# Altium schematic symbol library Componentes_base.SchLib: 431 symbols (part 11 of 12)
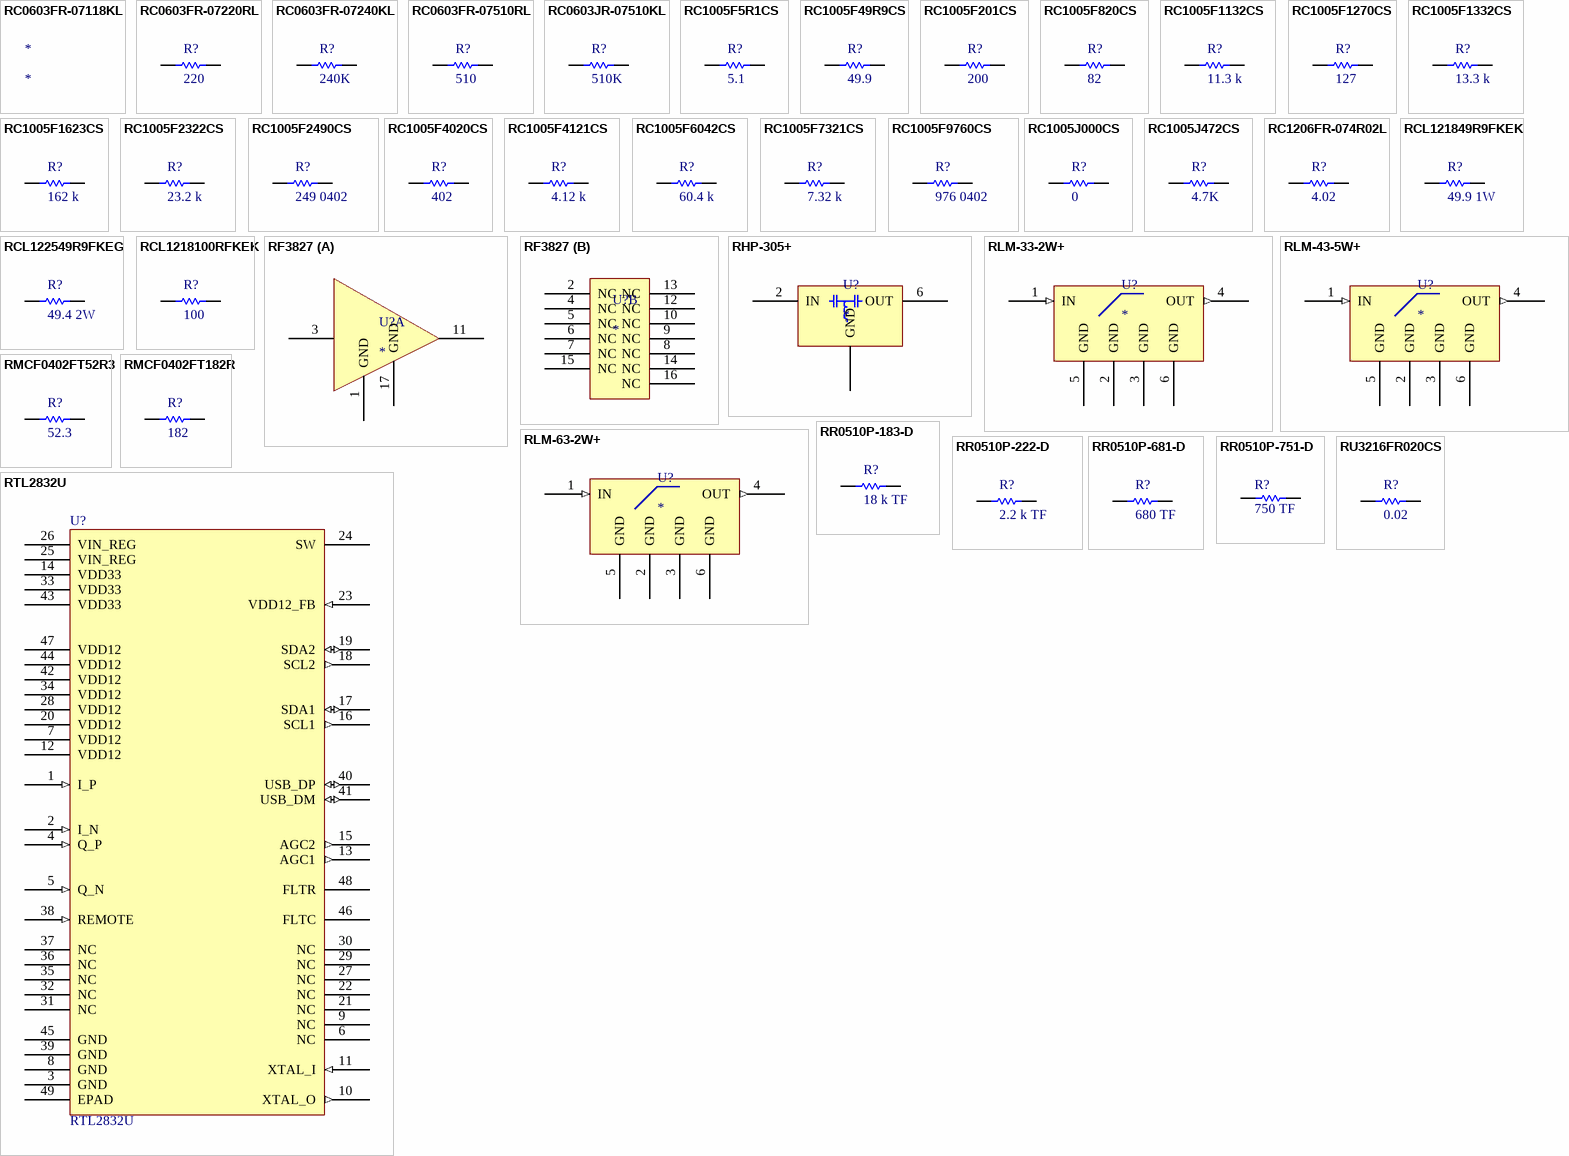
[diagram p24: symbols RC0603FR-07118KL to RU3216FR020CS]

## RC1005F49R9CS
designator R?, comment 49.9
RES SMD 49.9 OHM 1% 1/16W 0402; Manufacturer: Samsung Electro-Mechanics America, Inc.; Manufacturer Part Number: RC1005F49R9CS; Power (Watts): 0.063W, 1/16W; Temperature Coefficient: ±100ppm/°C; Supplier 1: Digi-Key; RoHS: RoHS Compliant; Category: Resistors; Stock 1: 1721748; Pricing 1: 1=0.09, 10=0.012, 100=0.0051, 1000=0.0023, 2500=0.002, 5000=0.00165 (EUR); Packaging: Cut Tape (CT); Part Status: Active; Resistance (Ohms): 49.9; Tolerance: ±1%; Composition: Thick Film; Features: Moisture Resistant; Operating Temperature: -55°C ~ 155°C; Package / Case: 0402 (1005 Metric); Supplier Device Package: 0402; Size / Dimension: 0.039" L x 0.020" W (1.00mm x 0.50mm); Height - Seated (Max): 0.016" (0.40mm); Failure Rate: -; ComponentLink1URL: http://www.samsungsem.com/kr/support/library/product-catalog/__icsFiles/afieldfile/2015/09/22/CHIP_RESISTOR_2015.pdf; ComponentLink1Description: http://www.samsungsem.com/kr/support/library/product-catalog/__icsFiles/afieldfile/2015/09/22/CHIP_RESISTOR_2015.pdf; Supplier Part Number 1: 1276-3469-1-ND
footprint RESC1005X04L (Chip Resistor, 2-Leads, Body 1,00x0,50mm, IPC High Density)
pins: 1, 2

## RC1005F201CS
designator R?, comment 200
RES 200 OHM 1/16W 1% 0402; Manufacturer: Samsung Electro-Mechanics America, Inc; Manufacturer Part Number: RC1005F201CS; Power (Watts): 0.063W, 1/16W; Temperature Coefficient: ±100ppm/°C; Supplier 1: Digi-Key; Supplier Part Number 1: 1276-3959-1-ND; RoHS: RoHS Compliant; Category: Resistors; Stock 1: 127532; Pricing 1: 1=0.09, 10=0.024, 25=0.0172, 100=0.0097, 500=0.00594, 1000=0.00436, 2500=0.00378, 5000=0.00313 (EUR); Packaging: Cut Tape (CT); Resistance (Ohms): 200; Tolerance: ±1%; Composition: Thick Film; Features: -; Operating Temperature: -55°C ~ 155°C; Package / Case: 0402 (1005 Metric); Supplier Device Package: 0402 (1005 Metric); Size / Dimension: 0.039" L x 0.020" W (1.00mm x 0.50mm); Height: 0.016" (0.40mm); Number of Terminations: 2; ComponentLink1URL: http://www.samsungsem.com/servlet/FileDownload?filename=productcatalog/pdf/Chip_Resistor.pdf; ComponentLink1Description: http://www.samsungsem.com/servlet/FileDownload?filename=productcatalog/pdf/Chip_Resistor.pdf
footprint RESC1005X04L (Chip Resistor, 2-Leads, Body 1,00x0,50mm, IPC High Density)
pins: 1, 2

## RC1005F820CS
designator R?, comment 82
RES 82 OHM 1/16W 1% 0402; Manufacturer: Samsung Electro-Mechanics America, Inc; Manufacturer Part Number: RC1005F820CS; Power (Watts): 0.063W, 1/16W; Temperature Coefficient: ±100ppm/°C; Supplier 1: Digi-Key; Supplier Part Number 1: 1276-3936-1-ND; RoHS: RoHS Compliant; Category: Resistors; Stock 1: 36135; Pricing 1: 1=0.09, 10=0.024, 25=0.0172, 100=0.0097, 500=0.00594, 1000=0.00436, 2500=0.00378, 5000=0.00313 (EUR); Packaging: Cut Tape (CT); Resistance (Ohms): 82; Tolerance: ±1%; Composition: Thick Film; Features: -; Operating Temperature: -55°C ~ 155°C; Package / Case: 0402 (1005 Metric); Supplier Device Package: 0402 (1005 Metric); Size / Dimension: 0.039" L x 0.020" W (1.00mm x 0.50mm); Height: 0.016" (0.40mm); Number of Terminations: 2; ComponentLink1URL: http://www.samsungsem.com/servlet/FileDownload?filename=productcatalog/pdf/Chip_Resistor.pdf; ComponentLink1Description: http://www.samsungsem.com/servlet/FileDownload?filename=productcatalog/pdf/Chip_Resistor.pdf
footprint RESC1005X04L (Chip Resistor, 2-Leads, Body 1,00x0,50mm, IPC High Density)
pins: 1, 2

## RC1005F1132CS
designator R?, comment 11.3 k
RES 11.3K OHM 1/16W 1% 0402; Manufacturer: Samsung Electro-Mechanics America, Inc; Manufacturer Part Number: RC1005F1132CS; Power (Watts): 0.063W, 1/16W; Temperature Coefficient: ±100ppm/°C; Supplier 1: Digi-Key; Supplier Part Number 1: 1276-4119-1-ND; RoHS: RoHS Compliant; Category: Resistors; Stock 1: 19190; Pricing 1: 1=0.09, 10=0.024, 25=0.0172, 100=0.0097, 500=0.00594, 1000=0.00436, 2500=0.00378, 5000=0.00313 (EUR); Packaging: Cut Tape (CT); Resistance (Ohms): 11.3k; Tolerance: ±1%; Composition: Thick Film; Features: -; Operating Temperature: -55°C ~ 155°C; Package / Case: 0402 (1005 Metric); Supplier Device Package: 0402 (1005 Metric); Size / Dimension: 0.039" L x 0.020" W (1.00mm x 0.50mm); Height: 0.016" (0.40mm); Number of Terminations: 2; ComponentLink1URL: http://www.samsungsem.com/servlet/FileDownload?filename=productcatalog/pdf/Chip_Resistor.pdf; ComponentLink1Description: http://www.samsungsem.com/servlet/FileDownload?filename=productcatalog/pdf/Chip_Resistor.pdf
footprint RESC1005X04L (Chip Resistor, 2-Leads, Body 1,00x0,50mm, IPC High Density)
pins: 1, 2

## RC1005F1270CS
designator R?, comment 127
RES 127 OHM 1/16W 1% 0402; Manufacturer: Samsung Electro-Mechanics America, Inc; Manufacturer Part Number: RC1005F1270CS; Power (Watts): 0.063W, 1/16W; Temperature Coefficient: ±100ppm/°C; Supplier 1: Digi-Key; Supplier Part Number 1: 1276-3950-1-ND; RoHS: RoHS Compliant; Category: Resistors; Stock 1: 12395; Pricing 1: 1=0.09, 10=0.024, 25=0.0172, 100=0.0097, 500=0.00594, 1000=0.00436, 2500=0.00378, 5000=0.00313 (EUR); Packaging: Cut Tape (CT); Resistance (Ohms): 127; Tolerance: ±1%; Composition: Thick Film; Features: -; Operating Temperature: -55°C ~ 155°C; Package / Case: 0402 (1005 Metric); Supplier Device Package: 0402 (1005 Metric); Size / Dimension: 0.039" L x 0.020" W (1.00mm x 0.50mm); Height: 0.016" (0.40mm); Number of Terminations: 2; ComponentLink1URL: http://www.samsungsem.com/servlet/FileDownload?filename=productcatalog/pdf/Chip_Resistor.pdf; ComponentLink1Description: http://www.samsungsem.com/servlet/FileDownload?filename=productcatalog/pdf/Chip_Resistor.pdf
footprint RESC1005X04L (Chip Resistor, 2-Leads, Body 1,00x0,50mm, IPC High Density)
pins: 1, 2

## RC1005F1332CS
designator R?, comment 13.3 k
RES 13.3K OHM 1/16W 1% 0402; Manufacturer: Samsung Electro-Mechanics America, Inc; Manufacturer Part Number: RC1005F1332CS; Power (Watts): 0.063W, 1/16W; Temperature Coefficient: ±100ppm/°C; Supplier 1: Digi-Key; Supplier Part Number 1: 1276-4126-1-ND; RoHS: RoHS Compliant; Category: Resistors; Stock 1: 2904; Pricing 1: 1=0.09, 25=0.0044, 100=0.0024, 500=0.00142, 1000=0.00106, 2500=0.00091, 5000=0.00075 (EUR); Packaging: Cut Tape (CT); Resistance (Ohms): 13.3k; Tolerance: ±1%; Composition: Thick Film; Features: -; Operating Temperature: -55°C ~ 155°C; Package / Case: 0402 (1005 Metric); Supplier Device Package: 0402 (1005 Metric); Size / Dimension: 0.039" L x 0.020" W (1.00mm x 0.50mm); Height: 0.016" (0.40mm); Number of Terminations: 2; ComponentLink1URL: http://www.samsungsem.com/servlet/FileDownload?filename=productcatalog/pdf/Chip_Resistor.pdf; ComponentLink1Description: http://www.samsungsem.com/servlet/FileDownload?filename=productcatalog/pdf/Chip_Resistor.pdf
footprint RESC1005X04L (Chip Resistor, 2-Leads, Body 1,00x0,50mm, IPC High Density)
pins: 1, 2

## RC1005F1623CS
designator R?, comment 162 k
RES 162K OHM 1/16W 1% 0402; Manufacturer: Samsung Electro-Mechanics America, Inc; Manufacturer Part Number: RC1005F1623CS; Power (Watts): 0.063W, 1/16W; Temperature Coefficient: ±100ppm/°C; Supplier 1: Digi-Key; Supplier Part Number 1: 1276-3444-1-ND; RoHS: RoHS Compliant; Category: Resistors; Stock 1: 34918; Pricing 1: 1=0.09, 10=0.017, 25=0.0124, 100=0.0069, 500=0.00418, 1000=0.00308, 2500=0.00267, 5000=0.00221 (EUR); Packaging: Cut Tape (CT); Resistance (Ohms): 162k; Tolerance: ±1%; Composition: Thick Film; Features: -; Operating Temperature: -55°C ~ 155°C; Package / Case: 0402 (1005 Metric); Supplier Device Package: 0402 (1005 Metric); Size / Dimension: 0.039" L x 0.020" W (1.00mm x 0.50mm); Height: 0.016" (0.40mm); Number of Terminations: 2; ComponentLink1URL: http://www.samsungsem.com/servlet/FileDownload?filename=productcatalog/pdf/Chip_Resistor.pdf; ComponentLink1Description: http://www.samsungsem.com/servlet/FileDownload?filename=productcatalog/pdf/Chip_Resistor.pdf
footprint RESC1005X04L (Chip Resistor, 2-Leads, Body 1,00x0,50mm, IPC High Density)
pins: 1, 2

## RC1005F2322CS
designator R?, comment 23.2 k
RES 23.2K OHM 1/16W 1% 0402; Manufacturer: Samsung Electro-Mechanics America, Inc; Manufacturer Part Number: RC1005F2322CS; Power (Watts): 0.063W, 1/16W; Temperature Coefficient: ±100ppm/°C; Supplier 1: Digi-Key; Supplier Part Number 1: 1276-4146-1-ND; RoHS: RoHS Compliant; Category: Resistors; Stock 1: 42307; Pricing 1: 1=0.09, 10=0.024, 25=0.0172, 100=0.0097, 500=0.00594, 1000=0.00436, 2500=0.00378, 5000=0.00313 (EUR); Packaging: Cut Tape (CT); Resistance (Ohms): 23.2k; Tolerance: ±1%; Composition: Thick Film; Features: -; Operating Temperature: -55°C ~ 155°C; Package / Case: 0402 (1005 Metric); Supplier Device Package: 0402 (1005 Metric); Size / Dimension: 0.039" L x 0.020" W (1.00mm x 0.50mm); Height: 0.016" (0.40mm); Number of Terminations: 2; ComponentLink1URL: http://www.samsungsem.com/servlet/FileDownload?filename=productcatalog/pdf/Chip_Resistor.pdf; ComponentLink1Description: http://www.samsungsem.com/servlet/FileDownload?filename=productcatalog/pdf/Chip_Resistor.pdf
footprint RESC1005X04L (Chip Resistor, 2-Leads, Body 1,00x0,50mm, IPC High Density)
pins: 1, 2

## RC1005F2490CS
designator R?, comment 249 0402
RES 249 OHM 1/16W 1% 0402; Manufacturer: Samsung Electro-Mechanics America, Inc; Manufacturer Part Number: RC1005F2490CS; Resistance (Ohms): 249; Power (Watts): 0.063W, 1/16W; Temperature Coefficient: ±100ppm/°C; Supplier 1: Digi-Key; Supplier Part Number 1: 1276-3967-1-ND; RoHS: RoHS Compliant; Category: Resistors; Stock 1: 24056; Pricing 1: 1=0.09, 10=0.024, 25=0.0172, 100=0.0097, 500=0.00594, 1000=0.00436, 2500=0.00378, 5000=0.00313 (EUR); Packaging: Cut Tape (CT); Tolerance: ±1%; Composition: Thick Film; Features: -; Operating Temperature: -55°C ~ 155°C; Package / Case: 0402 (1005 Metric); Supplier Device Package: 0402 (1005 Metric); Size / Dimension: 0.039" L x 0.020" W (1.00mm x 0.50mm); Height: 0.016" (0.40mm); Number of Terminations: 2; ComponentLink1URL: http://www.samsungsem.com/servlet/FileDownload?filename=productcatalog/pdf/Chip_Resistor.pdf; ComponentLink1Description: http://www.samsungsem.com/servlet/FileDownload?filename=productcatalog/pdf/Chip_Resistor.pdf
footprint RESC1005X04L (Chip Resistor, 2-Leads, Body 1,00x0,50mm, IPC High Density)
pins: 1, 2

## RC1005F4020CS
designator R?, comment 402
RES 402 OHM 1/16W 1% 0402; Manufacturer: Samsung Electro-Mechanics America, Inc; Manufacturer Part Number: RC1005F4020CS; Power (Watts): 0.063W, 1/16W; Temperature Coefficient: ±100ppm/°C; Supplier 1: Digi-Key; Supplier Part Number 1: 1276-3983-1-ND; RoHS: RoHS Compliant; Category: Resistors; Stock 1: 31102; Pricing 1: 1=0.09, 10=0.024, 25=0.0172, 100=0.0097, 500=0.00594, 1000=0.00436, 2500=0.00378, 5000=0.00313 (EUR); Packaging: Cut Tape (CT); Resistance (Ohms): 402; Tolerance: ±1%; Composition: Thick Film; Features: -; Operating Temperature: -55°C ~ 155°C; Package / Case: 0402 (1005 Metric); Supplier Device Package: 0402 (1005 Metric); Size / Dimension: 0.039" L x 0.020" W (1.00mm x 0.50mm); Height: 0.016" (0.40mm); Number of Terminations: 2; ComponentLink1URL: http://www.samsungsem.com/servlet/FileDownload?filename=productcatalog/pdf/Chip_Resistor.pdf; ComponentLink1Description: http://www.samsungsem.com/servlet/FileDownload?filename=productcatalog/pdf/Chip_Resistor.pdf
footprint RESC1005X04L (Chip Resistor, 2-Leads, Body 1,00x0,50mm, IPC High Density)
pins: 1, 2

## RC1005F4121CS
designator R?, comment 4.12 k
RES 4.12K OHM 1/16W 1% 0402; Manufacturer: Samsung Electro-Mechanics America, Inc; Manufacturer Part Number: RC1005F4121CS; Power (Watts): 0.063W, 1/16W; Temperature Coefficient: ±100ppm/°C; Supplier 1: Digi-Key; Supplier Part Number 1: 1276-4076-1-ND; RoHS: RoHS Compliant; Category: Resistors; Stock 1: 47557; Pricing 1: 1=0.09, 10=0.024, 25=0.0172, 100=0.0097, 500=0.00594, 1000=0.00436, 2500=0.00378, 5000=0.00313 (EUR); Packaging: Cut Tape (CT); Resistance (Ohms): 4.12k; Tolerance: ±1%; Composition: Thick Film; Features: -; Operating Temperature: -55°C ~ 155°C; Package / Case: 0402 (1005 Metric); Supplier Device Package: 0402 (1005 Metric); Size / Dimension: 0.039" L x 0.020" W (1.00mm x 0.50mm); Height: 0.016" (0.40mm); Number of Terminations: 2; ComponentLink1URL: http://www.samsungsem.com/servlet/FileDownload?filename=productcatalog/pdf/Chip_Resistor.pdf; ComponentLink1Description: http://www.samsungsem.com/servlet/FileDownload?filename=productcatalog/pdf/Chip_Resistor.pdf
footprint RESC1005X04L (Chip Resistor, 2-Leads, Body 1,00x0,50mm, IPC High Density)
pins: 1, 2

## RC1005F6042CS
designator R?, comment 60.4 k
RES 60.4K OHM 1/16W 1% 0402; Manufacturer: Samsung Electro-Mechanics America, Inc; Manufacturer Part Number: RC1005F6042CS; Power (Watts): 0.063W, 1/16W; Temperature Coefficient: ±100ppm/°C; Supplier 1: Digi-Key; Supplier Part Number 1: 1276-4185-1-ND; RoHS: RoHS Compliant; Category: Resistors; Stock 1: 37971; Pricing 1: 1=0.09, 10=0.024, 25=0.0172, 100=0.0097, 500=0.00594, 1000=0.00436, 2500=0.00378, 5000=0.00313 (EUR); Packaging: Cut Tape (CT); Resistance (Ohms): 60.4k; Tolerance: ±1%; Composition: Thick Film; Features: -; Operating Temperature: -55°C ~ 155°C; Package / Case: 0402 (1005 Metric); Supplier Device Package: 0402 (1005 Metric); Size / Dimension: 0.039" L x 0.020" W (1.00mm x 0.50mm); Height: 0.016" (0.40mm); Number of Terminations: 2; ComponentLink1URL: http://www.samsungsem.com/servlet/FileDownload?filename=productcatalog/pdf/Chip_Resistor.pdf; ComponentLink1Description: http://www.samsungsem.com/servlet/FileDownload?filename=productcatalog/pdf/Chip_Resistor.pdf
footprint RESC1005X04L (Chip Resistor, 2-Leads, Body 1,00x0,50mm, IPC High Density)
pins: 1, 2

## RC1005F7321CS
designator R?, comment 7.32 k
RES 7.32K OHM 1/16W 1% 0402; Manufacturer: Samsung Electro-Mechanics America, Inc; Manufacturer Part Number: RC1005F7321CS; Power (Watts): 0.063W, 1/16W; Temperature Coefficient: ±100ppm/°C; Supplier 1: Digi-Key; Supplier Part Number 1: 1276-4101-1-ND; RoHS: RoHS Compliant; Category: Resistors; Stock 1: 17403; Pricing 1: 1=0.09, 10=0.024, 25=0.0172, 100=0.0097, 500=0.00594, 1000=0.00436, 2500=0.00378, 5000=0.00313 (EUR); Packaging: Cut Tape (CT); Resistance (Ohms): 7.32k; Tolerance: ±1%; Composition: Thick Film; Features: -; Operating Temperature: -55°C ~ 155°C; Package / Case: 0402 (1005 Metric); Supplier Device Package: 0402 (1005 Metric); Size / Dimension: 0.039" L x 0.020" W (1.00mm x 0.50mm); Height: 0.016" (0.40mm); Number of Terminations: 2; ComponentLink1URL: http://www.samsungsem.com/servlet/FileDownload?filename=productcatalog/pdf/Chip_Resistor.pdf; ComponentLink1Description: http://www.samsungsem.com/servlet/FileDownload?filename=productcatalog/pdf/Chip_Resistor.pdf
footprint RESC1005X04L (Chip Resistor, 2-Leads, Body 1,00x0,50mm, IPC High Density)
pins: 1, 2

## RC1005F9760CS
designator R?, comment 976 0402
RES 976 OHM 1/16W 1% 0402; Manufacturer: Samsung Electro-Mechanics America, Inc; Manufacturer Part Number: RC1005F9760CS; Resistance (Ohms): 976; Power (Watts): 0.063W, 1/16W; Temperature Coefficient: ±100ppm/°C; Supplier 1: Digi-Key; Supplier Part Number 1: 1276-4019-1-ND; RoHS: RoHS Compliant; Category: Resistors; Stock 1: 18970; Pricing 1: 1=0.09, 10=0.024, 25=0.0172, 100=0.0097, 500=0.00594, 1000=0.00436, 2500=0.00378, 5000=0.00313 (EUR); Packaging: Cut Tape (CT); Tolerance: ±1%; Composition: Thick Film; Features: -; Operating Temperature: -55°C ~ 155°C; Package / Case: 0402 (1005 Metric); Supplier Device Package: 0402 (1005 Metric); Size / Dimension: 0.039" L x 0.020" W (1.00mm x 0.50mm); Height: 0.016" (0.40mm); Number of Terminations: 2; ComponentLink1URL: http://www.samsungsem.com/servlet/FileDownload?filename=productcatalog/pdf/Chip_Resistor.pdf; ComponentLink1Description: http://www.samsungsem.com/servlet/FileDownload?filename=productcatalog/pdf/Chip_Resistor.pdf
footprint RESC1005X04L (Chip Resistor, 2-Leads, Body 1,00x0,50mm, IPC High Density)
pins: 1, 2

## RC1005J000CS
designator R?, comment 0
RES 0.0 OHM 1/16W JUMP 0402; Manufacturer: Samsung Electro-Mechanics America, Inc; Manufacturer Part Number: RC1005J000CS; Resistance (Ohms): 0.0; Tolerance: Jumper; Power (Watts): 0.063W, 1/16W; Supplier 1: Digi-Key; Supplier Part Number 1: 1276-3480-1-ND; RoHS: RoHS Compliant; Category: Resistors; Stock 1: 2874816; Pricing 1: 1=0.09, 10=0.01, 25=0.0072, 100=0.0039, 500=0.00238, 1000=0.00174, 2500=0.00151, 5000=0.00125 (EUR); Packaging: Cut Tape (CT); Composition: Thick Film; Features: -; Temperature Coefficient: -; Operating Temperature: -55°C ~ 155°C; Package / Case: 0402 (1005 Metric); Supplier Device Package: 0402 (1005 Metric); Size / Dimension: 0.039" L x 0.020" W (1.00mm x 0.50mm); Height: 0.016" (0.40mm); Number of Terminations: 2; ComponentLink1URL: http://www.samsungsem.com/servlet/FileDownload?filename=productcatalog/pdf/Chip_Resistor.pdf; ComponentLink1Description: http://www.samsungsem.com/servlet/FileDownload?filename=productcatalog/pdf/Chip_Resistor.pdf
footprint RESC1005X04L (Chip Resistor, 2-Leads, Body 1,00x0,50mm, IPC High Density)
pins: 1, 2

## RC1005J472CS
designator R?, comment 4.7K
RES SMD 4.7K OHM 5% 1/16W 0402; Manufacturer: Samsung Electro-Mechanics America, Inc.; Manufacturer Part Number: RC1005J472CS; Power (Watts): 0.063W, 1/16W; Temperature Coefficient: ±100ppm/°C; Supplier 1: Digi-Key; RoHS: RoHS Compliant; Category: Resistors; Stock 1: 343796; Pricing 1: 1=0.09, 10=0.01, 100=0.004, 1000=0.00182, 2500=0.00158, 5000=0.0013 (EUR); Packaging: Cut Tape (CT); Part Status: Active; Resistance (Ohms): 4.7k; Tolerance: ±5%; Composition: Thick Film; Features: Moisture Resistant; Operating Temperature: -55°C ~ 155°C; Package / Case: 0402 (1005 Metric); Supplier Device Package: 0402; Size / Dimension: 0.039" L x 0.020" W (1.00mm x 0.50mm); Height - Seated (Max): 0.016" (0.40mm); Failure Rate: -; ComponentLink1URL: http://www.samsungsem.com/kr/support/library/product-catalog/__icsFiles/afieldfile/2015/09/22/CHIP_RESISTOR_2015.pdf; ComponentLink1Description: http://www.samsungsem.com/kr/support/library/product-catalog/__icsFiles/afieldfile/2015/09/22/CHIP_RESISTOR_2015.pdf; Supplier Part Number 1: 1276-4392-1-ND
footprint RESC1005X04L (Chip Resistor, 2-Leads, Body 1,00x0,50mm, IPC High Density)
pins: 1, 2

## RC1206FR-074R02L
designator R?, comment 4.02
RES 4.02 OHM 1/4W 1% 1206 SMD; Manufacturer: Yageo; Manufacturer Part Number: RC1206FR-074R02L; Power (Watts): 0.25W, 1/4W; Temperature Coefficient: ±200ppm/°C; Supplier 1: Digi-Key; Supplier Part Number 1: 311-4.02FRCT-ND; RoHS: RoHS Compliant; Category: Resistors; Stock 1: 134038; Pricing 1: 1=0.09, 10=0.028, 25=0.0208, 100=0.0116, 250=0.00884, 500=0.00708, 1000=0.00521, 2500=0.00452 (EUR); Packaging: Cut Tape (CT); Resistance (Ohms): 4.02; Tolerance: ±1%; Composition: Thick Film; Features: Moisture Resistant; Operating Temperature: -55°C ~ 155°C; Package / Case: 1206 (3216 Metric); Supplier Device Package: 1206; Size / Dimension: 0.122" L x 0.063" W (3.10mm x 1.60mm); Height: 0.026" (0.65mm); Number of Terminations: 2; ComponentLink1URL: http://www.yageo.com/documents/recent/PYu-RC1206_51_RoHS_L-4.pdf; ComponentLink1Description: http://www.yageo.com/documents/recent/PYu-RC1206_51_RoHS_L-4.pdf
footprint RESC3116X07L (Chip Resistor, 2-Leads, Body 3,10x1,55mm, IPC High Density)
pins: 1, 2

## RCL121849R9FKEK
designator R?, comment 49.9 1W
RES SMD 49.9 OHM 1% 1W 1218; Manufacturer: Vishay Dale; Manufacturer Part Number: RCL121849R9FKEK; Resistance (Ohms): 49.9; Temperature Coefficient: ±100ppm/°C; Resistance: 49.9 Ohms; Voltage Rating: 200 V; Brand: Vishay / Draloric; Supplier 1: Digi-Key; RoHS: RoHS Compliant; Category: Resistors; Stock 1: 11875; Pricing 1: 1=0.48, 10=0.343, 25=0.268, 50=0.2268, 100=0.1786, 250=0.15112, 500=0.12364, 1000=0.09616 (EUR); Packaging: Cut Tape (CT); Tolerance: ±1%; Power (Watts): 1W; Composition: Thick Film; Features: Automotive AEC-Q200; Operating Temperature: -55°C ~ 155°C; Package / Case: Wide 1812 (4532 Metric), 1218; Supplier Device Package: 1218 (3246 Metric); Size / Dimension: 0.126" L x 0.181" W (3.20mm x 4.60mm); Height: 0.024" (0.60mm); Number of Terminations: 2; ComponentLink1URL: http://www.vishay.com/docs/20046/rcle3.pdf; ComponentLink1Description: http://www.vishay.com/docs/20046/rcle3.pdf; Supplier Part Number 1: RCL49.9ACT-ND; Supplier 2: Mouser; Stock 2: 2103; Pricing 2: 1=0.815, 50=0.469, 100=0.376, 1000=0.171, 4000=0.148, 8000=0.127, 16000=0.110, 24000=0.102 (EUR); Length: 3.2 mm; Operating Temperature Range: - 55 C to + 155 C; Package/Case: 1218 (3246 metric) Reversed; Power Rating: 1 W; Product: Thick Film Resistors SMD; Series: RCL; Termination Style: SMD/SMT; Type: Long Side Termination Thick Film Chip Resistors; Width: 4.6 mm; Case Code - in: 1218 (Reversed); Case Code - mm: 3246 (Reversed); RoHS - Mouser: E; Minimum Order Quantity: 1; Reeling: True; ComponentLink2URL: http://www.mouser.com/ds/2/427/rcle3-247384.pdf; ComponentLink2Description: http://www.mouser.com/ds/2/427/rcle3-247384.pdf; Supplier Part Number 2: 71-RCL121849R9FKEK
footprint RESC3146X06L (Chip Resistor, 2-Leads, Body 3,15x4,60mm, IPC High Density)
pins: 1, 2

## RCL122549R9FKEG
designator R?, comment 49.4 2W
Thick Film Resistors - SMD 2watt 49.9ohm 1% 100ppm 1225; Manufacturer: Vishay / Draloric; Manufacturer Part Number: RCL122549R9FKEG; Resistance: 49.9 Ohms; Temperature Coefficient: 100 PPM / K; Voltage Rating: 200 V; Supplier 1: Mouser; RoHS: RoHS Compliant By Exemption; Category: Thick Film Resistors - SMD; Stock 1: 2270; Pricing 1: 1=0.462, 25=0.397, 50=0.357, 100=0.279, 500=0.225, 1000=0.183, 2000=0.160, 4000=0.157, 8000=0.153 (EUR); Height: 0.75 mm; Length: 3.2 mm; Operating Temperature Range: - 55 C to + 155 C; Package/Case: 1225 (3263 metric) Reversed; Packaging: Reel; Power Rating: 2 W; Product: Thick Film Resistors SMD; Series: RCL; Termination Style: SMD/SMT; Tolerance: 1 %; Type: Long Side Termination Thick Film Chip Resistors; Width: 6.3 mm; Brand: Vishay / Draloric; Case Code - in: 1225 (Reversed); Case Code - mm: 3263 (Reversed); RoHS - Mouser: E; Minimum Order Quantity: 1; Reeling: True; ComponentLink1URL: http://www.mouser.com/ds/2/427/rcle3-247384.pdf; ComponentLink1Description: http://www.mouser.com/ds/2/427/rcle3-247384.pdf; Supplier Part Number 1: 71-RCL122549R9FKEG
footprint RESC3263X08L (Chip Resistor, 2-Leads, Body 3,20x6,30mm, IPC High Density)
pins: 1, 2

## RCL1218100RFKEK
designator R?, comment 100
Thick Film Resistors - SMD 1watt 100ohms 1% 1218 100ppm; Manufacturer: Vishay / Draloric; Manufacturer Part Number: RCL1218100RFKEK; Power Rating: 1 W; Temperature Coefficient: 100 PPM / K; Voltage Rating: 200 V; Supplier 1: Mouser; RoHS: RoHS Compliant By Exemption; Category: Thick Film Resistors - SMD; Stock 1: 5370; Pricing 1: 1=0.272, 50=0.231, 100=0.126, 1000=0.098, 4000=0.086, 8000=0.085, 24000=0.081 (EUR); Height: 0.55 mm; Length: 3.2 mm; Operating Temperature Range: - 55 C to + 155 C; Package/Case: 1218 (3246 metric) Reversed; Packaging: Reel; Product: Thick Film Resistors SMD; Resistance: 100 Ohms; Series: RCL; Termination Style: SMD/SMT; Tolerance: 1 %; Type: Long Side Termination Thick Film Chip Resistors; Width: 4.6 mm; Brand: Vishay / Draloric; Case Code - in: 1218 (Reversed); Case Code - mm: 3246 (Reversed); RoHS - Mouser: E; Minimum Order Quantity: 1; Reeling: True; ComponentLink1URL: http://www.mouser.com/ds/2/427/rcle3-247384.pdf; ComponentLink1Description: http://www.mouser.com/ds/2/427/rcle3-247384.pdf; Supplier Part Number 1: 71-RCL1218100RFKEK
footprint RESC3146X06L (Chip Resistor, 2-Leads, Body 3,15x4,60mm, IPC High Density)
pins: 1, 2

## RF3827
designator U?
LINEAR GENERAL PURPOSE AMPLIFIER
footprint QFN50P300X300X62_HS-17L (QFN, 16-Leads, Body 3,00x3,00mm, Pitch 0,50mm, Thermal Pad 1,70x1,70mm, IPC High Density)
part A pins: 1 GND (power), 3 RF IN, 11 RF OUT, 17 GND (power)
part B pins: 2 NC, 4 NC, 5 NC, 6 NC, 7 NC, 8 NC, 9 NC, 10 NC, 12 NC, 13 NC, 14 NC, 15 NC, 16 NC

## RHP-305+
designator U?
High Pass Filter 50ohm 420 to 3200 MHz; Manufacturer: Minicircuits; Manufacturer Part Number: RHP-305+; Pricing 1: 10=12.7 (USD); Supplier 1: Minicircuits; Supplier Part Number 1: RHP-305+
footprint MINICIRCUITS TT1124 (6-Leads, Body 7,87x6,35mm, Pitch 2,54mm)
footprint GP731 MINICIRCUITS (LCC, 8-Pins, Body 8,89x8,99mmx2,54mm, Pitch 1,93mm, IPC High Density)
pins: 1 GND (power), 2 IN, 3 GND (power), 4 GND (power), 5 GND (power), 6 OUT, 7 GND (power), 8 GND (power)

## RLM-33-2W+
designator U?
Limiter 50ohm 0.2 MHz to 3000 MHz; Manufacturer: Minicircuits; Manufacturer Part Number: RLM-33-2W+; Pricing 1: 1=27.47, 10=22.73 (EUR); Supplier 1: Minicircuits; Supplier Part Number 1: RLM-33-2W+
footprint MINICIRCUITS TT1124 (6-Leads, Body 7,87x6,35mm, Pitch 2,54mm)
pins: 1 IN (in), 2 GND (power), 3 GND (power), 4 OUT (out), 5 GND (power), 6 GND (power)

## RLM-43-5W+
designator U?
Limiter 50ohm 20 MHz to 4000 MHz; Manufacturer: Minicircuits; Manufacturer Part Number: RLM-43-5W+; Pricing 1: 1=27.47, 10=22.73 (EUR); Supplier 1: Minicircuits; Supplier Part Number 1: RLM-43-5W+
footprint MINICIRCUITS TT1124 (6-Leads, Body 7,87x6,35mm, Pitch 2,54mm)
pins: 1 IN (in), 2 GND (power), 3 GND (power), 4 OUT (out), 5 GND (power), 6 GND (power)

## RLM-63-2W+
designator U?
Limiter 50ohm 30 MHz to 6000 MHz; Manufacturer: Minicircuits; Manufacturer Part Number: RLM-63-2W+; Pricing 1: 1=27.47, 10=22.73 (EUR); Supplier 1: Minicircuits; Supplier Part Number 1: RLM-63-2W+
footprint MINICIRCUITS TT1124 (6-Leads, Body 7,87x6,35mm, Pitch 2,54mm)
pins: 1 IN (in), 2 GND (power), 3 GND (power), 4 OUT (out), 5 GND (power), 6 GND (power)

## RMCF0402FT52R3
designator R?, comment 52.3
RES 52.3 OHM 1/16W 1% 0402; Manufacturer: Stackpole Electronics Inc; Manufacturer Part Number: RMCF0402FT52R3; Power (Watts): 0.063W, 1/16W; Temperature Coefficient: ±100ppm/°C; Supplier 1: Digi-Key; Supplier Part Number 1: RMCF0402FT52R3CT-ND; RoHS: RoHS Compliant; Category: Resistors; Stock 1: 20589; Pricing 1: 1=0.09, 10=0.022, 50=0.0122, 100=0.0092, 250=0.00688, 500=0.00506, 1000=0.00338, 2500=0.00285, 5000=0.00238 (EUR); Packaging: Cut Tape (CT); Resistance (Ohms): 52.3; Tolerance: ±1%; Composition: Thick Film; Features: -; Operating Temperature: -55°C ~ 155°C; Package / Case: 0402 (1005 Metric); Supplier Device Package: 0402; Size / Dimension: 0.039" L x 0.020" W (1.00mm x 0.50mm); Height: 0.016" (0.40mm); Number of Terminations: 2; ComponentLink1URL: http://www.seielect.com/Catalog/SEI-RMCF_RMCP.pdf; ComponentLink1Description: http://www.seielect.com/Catalog/SEI-RMCF_RMCP.pdf
footprint RESC1005X04L (Chip Resistor, 2-Leads, Body 1,00x0,50mm, IPC High Density)
pins: 1, 2

## RMCF0402FT182R
designator R?, comment 182
RES SMD 182 OHM 1% 1/16W 0402; Manufacturer: Stackpole Electronics Inc; Manufacturer Part Number: RMCF0402FT182R; Power (Watts): 0.063W, 1/16W; Temperature Coefficient: ±100ppm/°C; Supplier 1: Digi-Key; Supplier Part Number 1: RMCF0402FT182RCT-ND; RoHS: RoHS Compliant; Category: Resistors; Stock 1: 17462; Pricing 1: 1=0.09, 10=0.022, 50=0.0122, 100=0.0092, 250=0.00688, 500=0.00506, 1000=0.00338, 2500=0.00285, 5000=0.00238 (EUR); Packaging: Cut Tape (CT); Resistance (Ohms): 182; Tolerance: ±1%; Composition: Thick Film; Features: -; Operating Temperature: -55°C ~ 155°C; Package / Case: 0402 (1005 Metric); Supplier Device Package: 0402; Size / Dimension: 0.039" L x 0.020" W (1.00mm x 0.50mm); Height: 0.016" (0.40mm); Number of Terminations: 2; ComponentLink1URL: http://www.seielect.com/Catalog/SEI-RMCF_RMCP.pdf; ComponentLink1Description: http://www.seielect.com/Catalog/SEI-RMCF_RMCP.pdf
footprint RESC1005X04L (Chip Resistor, 2-Leads, Body 1,00x0,50mm, IPC High Density)
pins: 1, 2

## RR0510P-183-D
designator R?, comment 18 k TF
Thin Film Resistors - SMD 1/16W 18Kohm 0.5% 25ppm; Manufacturer: Susumu; Manufacturer Part Number: RR0510P-183-D; Power Rating: 62.5 mW (1/16 W); Resistance: 18 kOhms; Temperature Coefficient: 25 PPM / C; Voltage Rating: 25 V; Resistance (Ohms): 18k; Power (Watts): 0.063W, 1/16W; Supplier 1: Mouser; RoHS: RoHS Compliant; Category: Thin Film Resistors - SMD; Stock 1: 12105; Pricing 1: 1=0.073, 10=0.040, 100=0.017, 1000=0.014, 2000=0.009, 10000=0.008, 20000=0.007 (EUR); Height: 0.35 mm; Length: 1 mm; Operating Temperature Range: - 55 C to + 125 C; Package/Case: 0402 (1005 metric); Packaging: Reel; Product: Thin Film Resistors SMD; Termination Style: SMD/SMT; Tolerance: 0.5 %; Width: 0.5 mm; Brand: Susumu; Case Code - in: 0402; Case Code - mm: 1005; Standard Pack Qty: 10000; RoHS - Mouser: Y; Minimum Order Quantity: 1; Reeling: True; ComponentLink1URL: http://www.mouser.com/ds/2/392/susumu_RR_Data_Sheet-358748.pdf; ComponentLink1Description: http://www.mouser.com/ds/2/392/susumu_RR_Data_Sheet-358748.pdf; Supplier 2: Digi-Key; Stock 2: 65580; Pricing 2: 1=0.09, 10=0.075, 50=0.0412, 100=0.0304, 250=0.02324, 500=0.01856, 1000=0.01366, 2500=0.01185, 5000=0.00978 (EUR); Composition: Thin Film; Features: -; Operating Temperature: -55°C ~ 125°C; Package / Case: 0402 (1005 Metric); Supplier Device Package: 0402; Size / Dimension: 0.039" L x 0.020" W (1.00mm x 0.50mm); Number of Terminations: 2; ComponentLink2URL: http://www.susumu.co.jp/product_pdf/all-list/e_11.pdf; ComponentLink2Description: http://www.susumu.co.jp/product_pdf/all-list/e_11.pdf; Supplier Part Number 1: 754-RR0510P-183D; Supplier Part Number 2: RR05P18.0KDCT-ND
footprint RESC1005X04L (Chip Resistor, 2-Leads, Body 1,00x0,50mm, IPC High Density)
pins: 1, 2

## RR0510P-222-D
designator R?, comment 2.2 k TF
Thin Film Resistors - SMD 1/16W 2.2Kohm 0.5% 25ppm; Manufacturer: Susumu; Manufacturer Part Number: RR0510P-222-D; Power Rating: 62.5 mW (1/16 W); Resistance: 2.2 kOhms; Temperature Coefficient: 25 PPM / C; Voltage Rating: 25 V; Resistance (Ohms): 2.2k; Power (Watts): 0.063W, 1/16W; Supplier 1: Mouser; RoHS: RoHS Compliant; Category: Thin Film Resistors - SMD; Stock 1: 25560; Pricing 1: 1=0.064, 10=0.036, 100=0.016, 1000=0.012, 2000=0.008, 10000=0.007, 20000=0.006 (EUR); Height: 0.35 mm; Length: 1 mm; Operating Temperature Range: - 55 C to + 125 C; Package/Case: 0402 (1005 metric); Packaging: Reel; Product: Thin Film Resistors SMD; Termination Style: SMD/SMT; Tolerance: 0.5 %; Width: 0.5 mm; Brand: Susumu; Case Code - in: 0402; Case Code - mm: 1005; Standard Pack Qty: 10000; RoHS - Mouser: Y; Minimum Order Quantity: 1; Reeling: True; ComponentLink1URL: http://www.mouser.com/ds/2/392/susumu_RR_Data_Sheet-358748.pdf; ComponentLink1Description: http://www.mouser.com/ds/2/392/susumu_RR_Data_Sheet-358748.pdf; Supplier 2: Digi-Key; Stock 2: 33557; Pricing 2: 1=0.09, 10=0.075, 50=0.0412, 100=0.0304, 250=0.02324, 500=0.01856, 1000=0.01366, 2500=0.01185, 5000=0.00978 (EUR); Composition: Thin Film; Features: -; Operating Temperature: -55°C ~ 125°C; Package / Case: 0402 (1005 Metric); Supplier Device Package: 0402; Size / Dimension: 0.039" L x 0.020" W (1.00mm x 0.50mm); Number of Terminations: 2; ComponentLink2URL: http://www.susumu.co.jp/product_pdf/all-list/e_11.pdf; ComponentLink2Description: http://www.susumu.co.jp/product_pdf/all-list/e_11.pdf; Supplier Part Number 1: 754-RR0510P-222D; Supplier Part Number 2: RR05P2.2KDCT-ND
footprint RESC1005X04L (Chip Resistor, 2-Leads, Body 1,00x0,50mm, IPC High Density)
pins: 1, 2

## RR0510P-681-D
designator R?, comment 680 TF
Thin Film Resistors - SMD 1/16W 680ohm 0.5% 25ppm; Manufacturer: Susumu; Manufacturer Part Number: RR0510P-681-D; Power Rating: 62.5 mW (1/16 W); Resistance: 680 Ohms; Temperature Coefficient: 25 PPM / C; Voltage Rating: 25 V; Resistance (Ohms): 680; Power (Watts): 0.063W, 1/16W; Supplier 1: Mouser; RoHS: RoHS Compliant; Category: Thin Film Resistors - SMD; Stock 1: 3977; Pricing 1: 1=0.064, 10=0.036, 100=0.016, 1000=0.012, 2000=0.008, 10000=0.007, 20000=0.006 (EUR); Height: 0.35 mm; Length: 1 mm; Operating Temperature Range: - 55 C to + 125 C; Package/Case: 0402 (1005 metric); Packaging: Reel; Product: Thin Film Resistors SMD; Termination Style: SMD/SMT; Tolerance: 0.5 %; Width: 0.5 mm; Brand: Susumu; Case Code - in: 0402; Case Code - mm: 1005; Standard Pack Qty: 10000; RoHS - Mouser: Y; Minimum Order Quantity: 1; Reeling: True; ComponentLink1URL: http://www.mouser.com/ds/2/392/susumu_RR_Data_Sheet-358748.pdf; ComponentLink1Description: http://www.mouser.com/ds/2/392/susumu_RR_Data_Sheet-358748.pdf; Supplier 2: Digi-Key; Stock 2: 38518; Pricing 2: 1=0.09, 10=0.075, 50=0.0412, 100=0.0304, 250=0.02324, 500=0.01856, 1000=0.01366, 2500=0.01185, 5000=0.00978 (EUR); Composition: Thin Film; Features: -; Operating Temperature: -55°C ~ 125°C; Package / Case: 0402 (1005 Metric); Supplier Device Package: 0402; Size / Dimension: 0.039" L x 0.020" W (1.00mm x 0.50mm); Number of Terminations: 2; ComponentLink2URL: http://www.susumu.co.jp/product_pdf/all-list/e_11.pdf; ComponentLink2Description: http://www.susumu.co.jp/product_pdf/all-list/e_11.pdf; Supplier Part Number 1: 754-RR0510P-681D; Supplier Part Number 2: RR05P680DCT-ND
footprint RESC1005X04L (Chip Resistor, 2-Leads, Body 1,00x0,50mm, IPC High Density)
pins: 1, 2

## RR0510P-751-D
designator R?, comment 750 TF
Thin Film Resistors - SMD 1/16W 750ohm 0.5% 25ppm; Manufacturer: Susumu; Manufacturer Part Number: RR0510P-751-D; Power Rating: 62.5 mW (1/16 W); Resistance: 750 Ohms; Temperature Coefficient: 25 PPM / C; Voltage Rating: 25 V; VendorNumber: 6728; Supplier 1: Mouser; RoHS: RoHS Compliant; Category: Thin Film Resistors - SMD; Stock 1: 13830; Pricing 1: 1=0.073, 10=0.040, 100=0.017, 1000=0.014, 2000=0.009, 10000=0.008, 20000=0.007 (EUR); Height: 0.35 mm; Length: 1 mm; Operating Temperature Range: - 55 C to + 125 C; Package/Case: 0402 (1005 metric); Packaging: Reel; Product: Thin Film Resistors SMD; Termination Style: SMD/SMT; Tolerance: 0.5 %; Width: 0.5 mm; Brand: Susumu; Case Code - in: 0402; Case Code - mm: 1005; Standard Pack Qty: 10000; RoHS - Mouser: Y; Minimum Order Quantity: 1; Reeling: True; ComponentLink1URL: http://www.mouser.com/ds/2/392/susumu_RR_Data_Sheet-358748.pdf; ComponentLink1Description: http://www.mouser.com/ds/2/392/susumu_RR_Data_Sheet-358748.pdf; Supplier Part Number 1: 754-RR0510P-751D
footprint RESC1005X04L (Chip Resistor, 2-Leads, Body 1,00x0,50mm, IPC High Density)
pins: 1, 2

## RTL2832U
designator U?
Realtek RTL2832U
footprint QFN40P600X600X80_HS-49L Realtek
pins: 1 I_P (in), 2 I_N (in), 3 GND (power), 4 Q_P (in), 5 Q_N (in), 6 NC, 7 VDD12 (power), 8 GND (power), 9 NC, 10 XTAL_O (out), 11 XTAL_I (in), 12 VDD12 (power), 13 AGC1 (out), 14 VDD33 (power), 15 AGC2 (out), 16 SCL1 (out), 17 SDA1 (io), 18 SCL2 (out), 19 SDA2 (io), 20 VDD12 (power), 21 NC, 22 NC, 23 VDD12_FB (in), 24 SW, 25 VIN_REG (power), 26 VIN_REG (power), 27 NC, 28 VDD12 (power), 29 NC, 30 NC, 31 NC, 32 NC, 33 VDD33 (power), 34 VDD12 (power), 35 NC, 36 NC, 37 NC, 38 REMOTE (in), 39 GND (power), 40 USB_DP (io), 41 USB_DM (io), 42 VDD12 (power), 43 VDD33 (power), 44 VDD12 (power), 45 GND (power), 46 FLTC, 47 VDD12 (power), 48 FLTR, 49 EPAD (power)

## RU3216FR020CS
designator R?, comment 0.02
RES 0.02 OHM 1/2W 1% 1206; Manufacturer: Samsung Electro-Mechanics America, Inc; Manufacturer Part Number: RU3216FR020CS; Power (Watts): 0.5W, 1/2W; Temperature Coefficient: ±500ppm/°C; Supplier 1: Digi-Key; Supplier Part Number 1: 1276-6161-1-ND; RoHS: RoHS Compliant; Category: Resistors; Stock 1: 22904; Pricing 1: 1=0.38, 10=0.287, 25=0.2184, 100=0.1207, 500=0.0874, 1000=0.06659, 2500=0.06243 (EUR); Packaging: Cut Tape (CT); Resistance (Ohms): 0.02; Tolerance: ±1%; Composition: Thick Film; Features: Current Sense, Moisture Resistant; Operating Temperature: -55°C ~ 155°C; Package / Case: 1206 (3216 Metric); Supplier Device Package: 1206 (3216 Metric); Size / Dimension: 0.126" L x 0.063" W (3.20mm x 1.60mm); Height: 0.028" (0.70mm); Number of Terminations: 2; ComponentLink1URL: http://www.samsungsem.com/servlet/FileDownload?filename=productcatalog/pdf/Chip_Resistor.pdf; ComponentLink1Description: http://www.samsungsem.com/servlet/FileDownload?filename=productcatalog/pdf/Chip_Resistor.pdf
footprint RESC3216X07L-RU3216 (Chip Resistor, 2-Leads, Body 3,20x1,60mm, IPC High Density, Current Sense)
pins: 1, 2

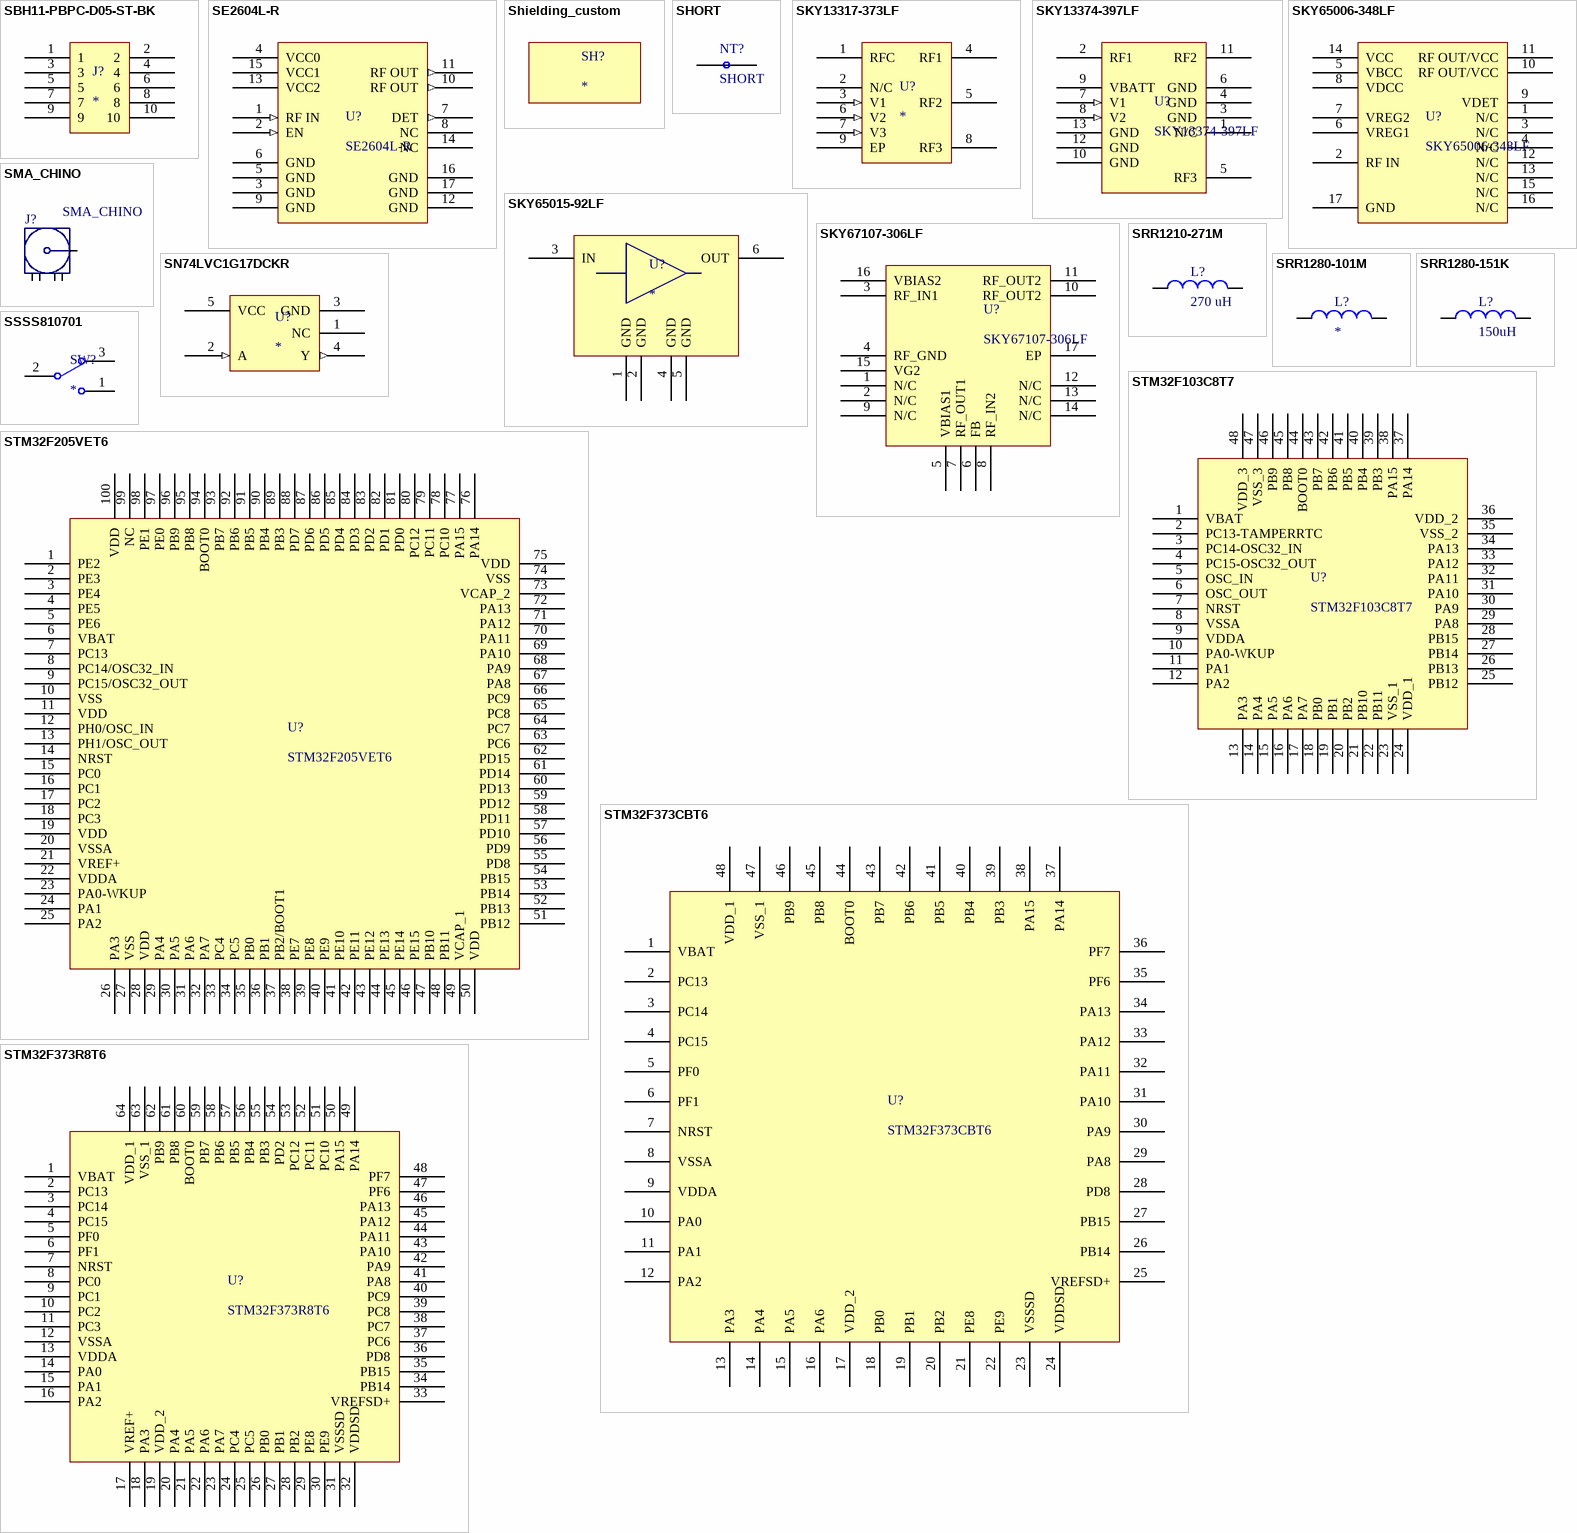
[diagram p12: symbols SBH11-PBPC-D05-ST-BK to STM32F373R8T6]

## SBH11-PBPC-D05-ST-BK
designator J?
CONN HEADER 2.54MM 10POS GOLD; Manufacturer: Sullins; Manufacturer Part Number: SBH11-PBPC-D05-ST-BK; Product Training Modules: Box Header Line / IDC Header Line; Product Change Notification: Reflow Processing Not Recommended 05/Apr/2012; Catalog Drawings: Straight 2.54mm Male; Featured Product: Fully Shrouded Box Headers; Connector Type: Header, Shrouded; Number of Positions: 10; Number of Positions Loaded: All; Pitch: 0.100" (2.54mm); Dynamic Catalog: SBH Series; Mating Products: S9318-ND / - CONN SOCKET IDC 10POS W/STR GOLD / S9306-ND / - CONN SOCKET IDC 10POS W/STR GOLD / S9296-ND / - CONN SOCKET IDC 10POS W/O KEY AU / S9286-ND / - CONN SOCKET IDC 10POS W/KEY GOLD / S9202-ND / - CONN HEADR FMALE 10PS .1" R/A AU / S9194-ND / - CONN HEADR FMALE 10POS .1" DL AU; Other Names: S9169; Supplier 1: Digi-Key; Stock 1: 28362; Pricing 1: 1=0.42, 10=0.4, 100=0.28, 500=0.24, 1000=0.2, 5000=0.1715, 10000=0.1651 (USD); Standard Package: 1; Category: Connectors, Interconnects; Family: Rectangular Connectors - Headers, Male Pins; Series: SBH11; Contact Type: Male Pin; Number of Rows: 2; Row Spacing: 0.100" (2.54mm); Mounting Type: Through Hole; Termination: Solder; Contact Finish: Gold; Contact Finish Thickness: Flash; Color: Black; Packaging: Tray; Supplier Part Number 1: S9169-ND
footprint SBH11-PBPC-D05-ST-BK
pins: 1, 2, 3, 4, 5, 6, 7, 8, 9, 10

## SE2604L-R
designator U?
IC PWR AMP 802.11A/B/G/N 16QFN; Manufacturer: Skyworks Solutions Inc.; Frequency: 2.4GHz ~ 2.5GHz; P1dB: 30dBm; Gain: 32dB; RF Type: 802.11b/g/n; Voltage - Supply: 2.9 V ~ 3.6 V; Current - Supply: 450mA; Supplier 1: Digi-Key; Manufacturer Part Number: SE2604L-R; RoHS: RoHS Compliant; Category: RF/IF and RFID; Stock 1: 6122; Pricing 1: 1=1.69, 10=1.527, 25=1.3636, 100=1.2274, 250=1.09104, 500=0.95466, 1000=0.791 (EUR); Packaging: Cut Tape (CT); Part Status: Active; Noise Figure: -; Test Frequency: 2.4GHz ~ 2.5GHz; Package / Case: 16-VFQFN Exposed Pad; Supplier Device Package: 16-QFN (3x3); ComponentLink1URL: http://www.skyworksinc.com/uploads/documents/SE2604L_202437B.pdf; ComponentLink1Description: http://www.skyworksinc.com/uploads/documents/SE2604L_202437B.pdf; Supplier Part Number 1: 863-1370-1-ND
pins: 1 RF IN (in), 2 EN (in), 3 GND, 4 VCC0, 5 GND, 6 GND, 7 DET (out), 8 NC, 9 GND, 10 RF OUT (out), 11 RF OUT (out), 12 GND, 13 VCC2, 14 NC, 15 VCC1, 16 GND, 17 GND

## Shielding_custom
designator SH?
Custom aluminium shielding; Manufacturer: STMicroelectronics; Manufacturer Part Number: BAT60JFILM; Diode Type: Schottky; Current - Average Rectified (Io): 3A (DC); Voltage - Forward (Vf) (Max) @ If: 580mV @ 1A; Speed: Fast Recovery =< 500ns, > 200mA (Io); Current - Reverse Leakage @ Vr: 6µA @ 10V; RoHS: RoHS Compliant; Category: Discrete Semiconductor Products; Packaging: Cut Tape (CT); Part Status: Active; Capacitance @ Vr, F: -; Mounting Type: Surface Mount; Package / Case: SC-76, SOD-323; Supplier Device Package: SOD-323; Operating Temperature - Junction: 150°C (Max); ComponentLink1URL: http://www.st.com/content/ccc/resource/technical/document/datasheet/3d/d2/27/1d/20/e3/4d/48/CD00001944.pdf/files/CD00001944.pdf/jcr:content/translations/en.CD00001944.pdf; ComponentLink1Description: http://www.st.com/content/ccc/resource/technical/document/datasheet/3d/d2/27/1d/20/e3/4d/48/CD00001944.pdf/files/CD00001944.pdf/jcr:content/translations/en.CD00001944.pdf
footprint Shield

## SHORT
designator NT?  (net tie, no BOM)
footprint SHORT_0603
pins: 1, 2

## SKY13317-373LF
designator U?
RF Switch ICs 20MHz-6GHz SP3T GaAs IL .5dB @2.5GHz; Manufacturer: Skyworks Solutions, Inc.; Manufacturer Part Number: SKY13317-373LF; Operating Frequency: 20 MHz to 6 GHz; Insertion Loss: 0.8 dB; Off Isolation - Typ: 25 dB; Off Time - Max: 20 ns; On Time - Max: 55 ns; High Control Voltage: 1.9 V to 5 V; Number of Switches: Triple; Frequency - Lower: 20MHz; Frequency - Upper: 6GHz; Isolation @ Frequency: 25dB @ 5.9GHz (typ); Insertion Loss @ Frequency: 0.8dB @ 5.9GHz; IIP3: 50dBm (typ); Topology: Reflective; P1dB: 26dBm (typ) IP1dB; Impedance: 50 Ohm; RF Type: 802.11a/b/g/WiFi, WLAN; Supplier 1: Mouser; RoHS: RoHS Compliant; Category: RF Switch ICs; Stock 1: 21864; Pricing 1: 1=0.732, 50=0.659, 100=0.567, 3000=0.567 (EUR); Package/Case: QFN-8; Packaging: Reel; Brand: Skyworks Solutions, Inc.; Mounting Style: SMD/SMT; Maximum Operating Temperature: + 100 C; Minimum Operating Temperature: - 40 C; Standard Pack Qty: 3000; Switch Configuration: SP3T; RoHS - Mouser: Y; Minimum Order Quantity: 1; Reeling: True; ComponentLink1URL: http://www.mouser.com/ds/2/472/SKY13317_373LF_200914J-369447.pdf; ComponentLink1Description: http://www.mouser.com/ds/2/472/SKY13317_373LF_200914J-369447.pdf; Supplier 2: Digi-Key; Stock 2: 6811; Pricing 2: 1=0.71, 100=0.5682 (EUR); Circuit: SP3T; Features: -; Operating Temperature: -40°C ~ 100°C; Voltage - Supply: -; Package / Case: 8-XFDFN Exposed Pad; Supplier Device Package: 8-MLPQ-UT (1.5x1.5); ComponentLink2URL: http://www.skyworksinc.com/uploads/documents/SKY13317_373LF_200914K.pdf; ComponentLink2Description: http://www.skyworksinc.com/uploads/documents/SKY13317_373LF_200914K.pdf; Supplier Part Number 1: 873-SKY13317-373LF; Supplier Part Number 2: 863-1056-6-ND
footprint SON40P150X50_HS-9L - SKYWORKS (SON, 8-Leads, Body 1,50x1,50mm, Pitch 0,40mm, Thermal Pad 1,20x0,58mm, IPC High Density)
pins: 1 RFC, 2 N/C, 3 V1 (in), 4 RF1, 5 RF2, 6 V2 (in), 7 V3 (in), 8 RF3, 9 EP

## SKY13374-397LF
designator U?
IC SWITCH DPDT LF-6GHZ 12QFN; Manufacturer: Skyworks Solutions Inc.; Frequency - Lower: 300kHz; Frequency - Upper: 6GHz; Isolation @ Frequency: 28dB @ 3GHz (typ); Insertion Loss @ Frequency: 0.5dB @ 3GHz; IIP3: 68dBm (typ); Circuit: SPDT; P1dB: 39dBm (typ) IP1dB; Impedance: 50 Ohm; Voltage - Supply: 2.5 V ~ 4.8 V; RF Type: 802.11a/b/g/n; Supplier 1: Digi-Key; Manufacturer Part Number: SKY13374-397LF; RoHS: RoHS Compliant; Category: RF/IF and RFID; Stock 1: 14224; Pricing 1: 1=0.81, 10=0.73, 100=0.5693, 500=0.4703, 1000=0.37127 (EUR); Packaging: Cut Tape (CT); Part Status: Active; Topology: -; Features: -; Operating Temperature: -40°C ~ 85°C; Package / Case: 12-UFQFN Exposed Pad; Supplier Device Package: 12-QFN (2x2); ComponentLink1URL: http://www.skyworksinc.com/uploads/documents/SKY13374_397LF_201447K.pdf; ComponentLink1Description: http://www.skyworksinc.com/uploads/documents/SKY13374_397LF_201447K.pdf; Supplier Part Number 1: 863-1523-1-ND
footprint QFN50P200X200X60_HS-13L SKYWORKS
pins: 1 N/C (power), 2 RF1, 3 GND (power), 4 GND (power), 5 RF3, 6 GND (power), 7 V1 (in), 8 V2 (in), 9 VBATT (power), 10 GND (power), 11 RF2, 12 GND (power), 13 GND (power)

## SKY65006-348LF
designator U?
PA: Linear, high-gain two-stage power  amplifier with integrated output power detector and second  harmonic (F2) filter; Manufacturer: Broadcom Limited; Manufacturer Part Number: MGA-13216-BLKG; Frequency: 1.5GHz ~ 2.5GHz; P1dB: 23.6dB; Gain: 35.8dB; Noise Figure: 0.61dB; RF Type: CDMA, GSM, WCDMA; Voltage - Supply: 5V; Current - Supply: 122mA; Test Frequency: 1.95GHz; RoHS: RoHS Compliant; Category: RF/IF and RFID; Packaging: Cut Strip; Part Status: Active; Package / Case: 16-VQFN Exposed Pad; Supplier Device Package: 16-QFN (4x4); ComponentLink1URL: https://docs.broadcom.com/docs/AV02-2878EN; ComponentLink1Description: https://docs.broadcom.com/docs/AV02-2878EN
footprint QFN50P300X300X100_HS-17N (QFN, 16-Leads, Body 3,00x3,00mm, Pitch 0,50mm, Thermal Pad 1,45x1,45mm, IPC Medium Density)
pins: 1 N/C, 2 RF IN, 3 N/C, 4 N/C, 5 VBCC, 6 VREG1, 7 VREG2, 8 VDCC, 9 VDET, 10 RF OUT/VCC, 11 RF OUT/VCC, 12 N/C, 13 N/C, 14 VCC, 15 N/C, 16 N/C, 17 GND

## SKY65015-92LF
designator U?
IC AMP INGAP LF-6GHZ SC88; Manufacturer: Skyworks Solutions Inc; Manufacturer Part Number: SKY65015-92LF; Frequency: 0Hz ~ 6GHz; P1dB: 18dBm (63.1mW); Gain: 18dB; Noise Figure: 4.8dB; RF Type: Cellular, WLAN; Voltage - Supply: 4.5 V ~ 5 V; Current - Supply: 120mA; Test Frequency: 2GHz; Operating Frequency: 100 MHz to 6 GHz; Power Gain Typ: 18 dB; Supply Current: 70 mA; Brand: Skyworks Solutions, Inc.; Operating Supply Voltage: 4.7 V; Output Intercept Point: 35 dBm; Product Status: End of Life; Supplier 1: Digi-Key; Supplier Part Number 1: 863-1263-1-ND; RoHS: RoHS Compliant; Category: RF/IF and RFID; Stock 1: 3168; Pricing 1: 1=1.34, 100=1.2142, 500=1.11746, 1000=1.05235 (EUR); Packaging: Cut Tape (CT); Package / Case: 6-TSSOP, SC-88, SOT-363; Supplier Device Package: SC-88; ComponentLink1URL: http://www.skyworksinc.com/uploads/documents/200333B.pdf; ComponentLink1Description: http://www.skyworksinc.com/uploads/documents/200333B.pdf; Supplier 2: Mouser; Supplier Part Number 2: 873-SKY65015-92LF; Stock 2: 560; Pricing 2: 1=1.36, 50=1.31, 100=1.19, 500=1.10, 1000=1.06, 3000=1.01 (EUR); Package/Case: SC-88; Type: InGaP Cascadable Amplifier; Mounting Style: SMD/SMT; Maximum Operating Temperature: + 85 C; Minimum Operating Temperature: - 40 C; Standard Pack Qty: 3000; RoHS - Mouser: Y; Minimum Order Quantity: 1; Reeling: True; ComponentLink2URL: http://www.mouser.com/ds/2/472/skyworks_200333b-329113.pdf; ComponentLink2Description: http://www.mouser.com/ds/2/472/skyworks_200333b-329113.pdf
footprint SC70P220X110-6N (SC-70, 6-Leads, Body 2,00x2,20mm, Pitch 0,65mm, IPC Medium Density)
pins: 1 GND (power), 2 GND (power), 3 IN, 4 GND (power), 5 GND (power), 6 OUT

## SKY67107-306LF
designator U?
RF AMP 2.8GHZ TWO STAGE 16QFN; Manufacturer: Skyworks Solutions Inc.; Frequency: 2.3GHz ~ 2.8GHz; P1dB: 18.5dBm; Gain: 32dB; Noise Figure: 1.1dB; RF Type: ISM; Voltage - Supply: 5V; Current - Supply: 125mA; Test Frequency: 2.6GHz; Supplier 1: Digi-Key; Manufacturer Part Number: SKY67107-306LF; RoHS: RoHS Compliant; Category: RF/IF and RFID; Stock 1: 5881; Pricing 1: 1=5.55, 10=4.953, 25=4.4576, 100=4.0614, 250=3.66516, 500=3.28878, 1000=2.77365 (EUR); Packaging: Cut Tape (CT); Part Status: Active; Package / Case: 16-VQFN Exposed Pad; Supplier Device Package: 16-QFN (4x4); ComponentLink1URL: http://www.skyworksinc.com/uploads/documents/201739A.pdf; ComponentLink1Description: http://www.skyworksinc.com/uploads/documents/201739A.pdf; Supplier Part Number 1: 863-1458-1-ND
pins: 1 N/C, 2 N/C, 3 RF_IN1, 4 RF_GND, 5 VBIAS1, 6 FB, 7 RF_OUT1, 8 RF_IN2, 9 N/C, 10 RF_OUT2, 11 RF_OUT2, 12 N/C, 13 N/C, 14 N/C, 15 VG2, 16 VBIAS2, 17 EP

## SMA_CHINO
designator J?
footprint SMACHINO
pins: 1, 2, 3, 4, 5

## SN74LVC1G17DCKR
designator U?
IC BUFFER SCHMIT TRIG SC705; Manufacturer: Texas Instruments; Manufacturer Part Number: SN74LVC1G17DCKR; Logic Type: Schmitt Trigger - Buffer, Driver; Number of Elements: 1; Current - Output High, Low: 32mA, 32mA; Voltage - Supply: 1.65 V ~ 5.5 V; Supplier 1: Digi-Key; RoHS: RoHS Compliant; Category: Integrated Circuits (ICs); Stock 1: 22964; Pricing 1: 1=0.44, 10=0.253, 100=0.1195, 1000=0.09188 (EUR); Packaging: Cut Tape (CT); Number of Bits per Element: 1; Operating Temperature: -40°C ~ 85°C; Mounting Type: Surface Mount; Package / Case: 5-TSSOP, SC-70-5, SOT-353; Supplier Device Package: SC-70-5; ComponentLink1URL: http://www.ti.com/lit/ds/symlink/sn74lvc1g17.pdf; ComponentLink1Description: http://www.ti.com/lit/ds/symlink/sn74lvc1g17.pdf; Supplier Part Number 1: 296-11934-1-ND
footprint SC70P210X110-5L (SC-70 5-Leads, Body 2,00x2,10mm, Pitch 0,65mm, IPC High Density)
pins: 1 NC, 2 A (in), 3 GND (power), 4 Y (out), 5 VCC (power)

## SRR1210-271M
designator L?, comment 270 uH
Fixed Inductors 270uH; Manufacturer: Bourns; Manufacturer Part Number: SRR1210-271M; Core Material: Ferrite; Tolerance: 20; Saturation Current: 1.3; Shielding: Shielded; Self Resonant Frequency: 1.8; Q Factor: 16; Current Rating: 1.5; Resistance: 0.41; Inductance: 270; Current: 1.1; DC Resistance (DCR): 410; Test Frequency: 100; Supplier 1: Digikey; Stock 1: 4843; Pricing 1: 1=1.03, 10=0.961, 25=0.8872, 50=0.7392, 100=0.6948 (USD); Mount: Surface Mount; Case/Package: Nonstandard; Min Operating Temperature: -40; Max Operating Temperature: 125; Packaging: Tape and Reel; Package Quantity: 1; Composition: Wirewound; Max DC Current: 1.5; Termination: SMD; DC Current: 1.5; Military Standard: Not; Length: 0.472; Height: 10; Width: 0.472; Height - Seated (Max): 0.394; Depth: 12.5; ComponentLink1URL: https://datasheet.ciiva.com/6693/srr1210-6693165.pdf; ComponentLink1Description: https://datasheet.ciiva.com/6693/srr1210-6693165.pdf; ComponentLink2URL: https://datasheet.ciiva.com/6693/srr1210-6693164.pdf; ComponentLink2Description: https://datasheet.ciiva.com/6693/srr1210-6693164.pdf; ComponentLink3URL: https://datasheet.ciiva.com/6693/srr1210-6693163.pdf; ComponentLink3Description: https://datasheet.ciiva.com/6693/srr1210-6693163.pdf; Supplier Part Number 1: SRR1210-271MCT-ND
footprint INDP120120X100N (Precision Wire Wound Inductor, 2-Leads, Body 12,00x12,00mm, IPC Medium Density)
pins: 1, 2

## SRR1280-101M
designator L?
FIXED IND 100UH 2.1A 150 MOHM; Manufacturer: Maxim Integrated; Manufacturer Part Number: MAX6921AWI+; Display Type: Vacuum Fluorescent (VF); Interface: 4-Wire Serial; Current - Supply: 1.65mA; Voltage - Supply: 8 V ~ 76 V; RoHS: RoHS Compliant; Category: Integrated Circuits (ICs); Packaging: Tube; Part Status: Active; Configuration: -; Digits or Characters: -; Operating Temperature: -40°C ~ 125°C; Mounting Type: Surface Mount; Package / Case: 28-SOIC (0.295", 7.50mm Width); Supplier Device Package: 28-SOIC; ComponentLink1URL: http://datasheets.maximintegrated.com/en/ds/MAX6921-MAX6931.pdf; ComponentLink1Description: http://datasheets.maximintegrated.com/en/ds/MAX6921-MAX6931.pdf; Supplier 1: Digi-Key; Supplier Part Number 1: SRR1280-101MCT-ND
footprint SRR1280
pins: 1, 2